# Altium schematic symbol library IND-SM-0402-HF-4.7nH.Schlib: 1 symbol
Pins are listed as number, name and electrical type; pins without a type are passive.

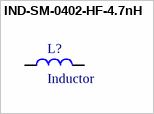
[diagram p0: symbol IND-SM-0402-HF-4.7nH]

## IND-SM-0402-HF-4.7nH
designator L?, comment Inductor
IND SM 0402 CHIP HF 4.7nH 5%
pins: 1, 2